# EAGLE library part 236-412/000-009 (library con-wago_236)
Serie 236, Stand: 01.01.2012. Die jeweils aktuellen Daten zu diesem Artikel finden Sie in unserem Produktkatalog, den Sie unter www.wago.com einsehen können. As of: 01/01/2012. Please find the newest data for this article in our product catalogue, which can be viewed under www.wago.com.
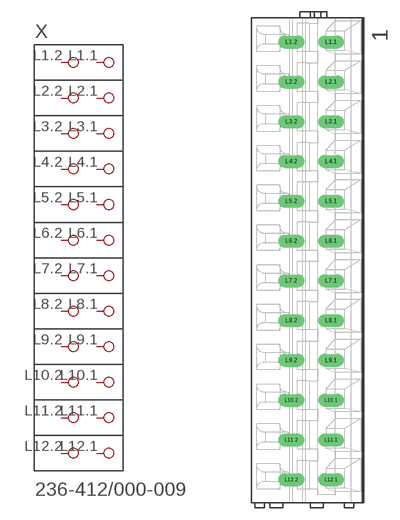
[diagram p185: symbol with the pads of P-236-412; footprint P-236-412]

Designator prefix X

## 236-412/000-009  [P-236-412]
L1.1  P1.1
L1.2  P1.2
L2.1  P2.1
L2.2  P2.2
L3.1  P3.1
L3.2  P3.2
L4.1  P4.1
L4.2  P4.2
L5.1  P5.1
L5.2  P5.2
L6.1  P6.1
L6.2  P6.2
L7.1  P7.1
L7.2  P7.2
L8.1  P8.1
L8.2  P8.2
L9.1  P9.1
L9.2  P9.2
L10.1  P10.1
L10.2  P10.2
L11.1  P11.1
L11.2  P11.2
L12.1  P12.1
L12.2  P12.2

## Footprint P-236-412 (pad centres in mm)
drill 1.1 long: L1.1 2.957,27.35; L1.2 -2.043,27.35; L2.1 2.957,22.35; L2.2 -2.043,22.35; L3.1 2.957,17.35; L3.2 -2.043,17.35; L4.1 2.957,12.35; L4.2 -2.043,12.35; L5.1 2.957,7.35; L5.2 -2.043,7.35; L6.1 2.957,2.35; L6.2 -2.043,2.35; L7.1 2.957,-2.65; L7.2 -2.043,-2.65; L8.1 2.957,-7.65; L8.2 -2.043,-7.65; L9.1 2.957,-12.65; L9.2 -2.043,-12.65; L10.1 2.957,-17.65; L10.2 -2.043,-17.65; L11.1 2.957,-22.65; L11.2 -2.043,-22.65; L12.1 2.957,-27.65; L12.2 -2.043,-27.65